# Altium footprint library Mechanical_Relays_Power_TH.PcbLib: 2 footprints
Each footprint in its own frame and in the unit in brackets; x right, y up, seen from the top. Pads: shape width x height; smd on the part's side, far side on the other; paste and mask are expansions set on the pad; w line width, h text height; cw(c..) or ccw(c..) is an arc to the next point about the centre after c.
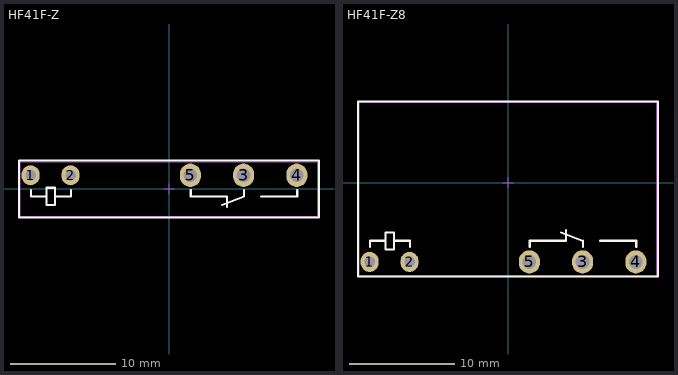
[diagram p0: the footprints below, top view; thin cyan lines are the x and y axes]

## HF41F-Z [mm]
height 15
pads (5):
  oval 1.7x1.9 hole 1: 1(-13.1,1.3) 2(-9.32,1.3)
  oval 2x2.2 hole 1.3: 3(7.06,1.3) 4(12.1,1.3) 5(2.02,1.3)
Top Overlay:
  lines w0.2: -13.06,-0.1 -13.06,-0.7 -11.6,-0.7 ; -10.8,-0.7 -9.28,-0.7 -9.28,-0.1 ; 2.06,-0.1 2.06,-0.7 5.5,-0.7 5.5,-1.7 ; 5,-1.5 7.1,-0.7 7.1,-0.1 ; 8.7,-0.7 12.14,-0.7 12.14,-0.1 ; -14.2,-2.7 -14.2,2.7 14.2,2.7 14.2,-2.7 -14.2,-2.7 ; -11.6,-1.5 -11.6,0.12 -10.8,0.12 -10.8,-1.5 -11.6,-1.5
Top Package:
  circle w0.1: c2.02,1.3 r0.5
  circle w0.1: c12.1,1.3 r0.5
  circle w0.1: c7.06,1.3 r0.5
  circle w0.1: c-13.1,1.3 r0.4
  circle w0.1: c-9.32,1.3 r0.4
  lines w0.1: -14.1,-2.6 14.1,-2.6 14.1,2.6 -14.1,2.6 -14.1,-2.6
Top Comment:
  text ".Comment" at -1.702,-0.391 h1.2
Top Designator:
  text ".Designator" at -2.579,-0.349 h1.5
Top Border:
  lines w0.1: -0.5,0 0.5,0 ; 0,-0.5 0,0.5 ; -14.1,-2.6 14.1,-2.6 14.1,2.6 -14.1,2.6 -14.1,-2.6
3D body "HF41F-Z.stp": height 15, standoff -3.5, extent -14.001,-2.502 13.999,2.498

## HF41F-Z8 [mm]
height 5
pads (5):
  oval 1.7x1.9 hole 1: 1(-13.1,-7.5) 2(-9.32,-7.5)
  oval 2x2.2 hole 1.3: 3(7.06,-7.5) 4(12.1,-7.5) 5(2.02,-7.5)
Top Overlay:
  lines w0.2: -13.06,-6.1 -13.06,-5.5 -11.6,-5.5 ; -10.8,-5.5 -9.28,-5.5 -9.28,-6.1 ; 2.06,-6.1 2.06,-5.5 5.5,-5.5 5.5,-4.5 ; 5,-4.7 7.1,-5.5 7.1,-6.1 ; 8.7,-5.5 12.14,-5.5 12.14,-6.1 ; -14.2,-8.9 -14.2,7.7 14.2,7.7 14.2,-8.9 -14.2,-8.9 ; -11.6,-6.32 -11.6,-4.7 -10.8,-4.7 -10.8,-6.32 -11.6,-6.32
Top Package:
  circle w0.1: c2.02,-7.5 r0.5
  circle w0.1: c12.1,-7.5 r0.5
  circle w0.1: c7.06,-7.5 r0.5
  circle w0.1: c-13.1,-7.5 r0.4
  circle w0.1: c-9.32,-7.5 r0.4
  lines w0.1: -14.1,-8.8 -14.1,7.6 14.1,7.6 14.1,-8.8 -14.1,-8.8
Top Comment:
  text ".Comment" at -1.702,-0.391 h1.2
Top Designator:
  text ".Designator" at -2.579,-0.349 h1.5
Top Border:
  lines w0.1: -0.5,0 0.5,0 ; 0,-0.5 0,0.5 ; -14.1,-8.8 14.1,-8.8 14.1,7.6 -14.1,7.6 -14.1,-8.8
3D body "HF41F-Z8.stp": height 5.1, standoff -2.77, extent -14.001,-7.618 13.999,7.498